# Altium footprint library IC THM.PcbLib: 8 footprints
Each footprint in its own frame and in the unit in brackets; x right, y up, seen from the top. Pads: shape width x height; smd on the part's side, far side on the other; paste and mask are expansions set on the pad; w line width, h text height; cw(c..) or ccw(c..) is an arc to the next point about the centre after c.
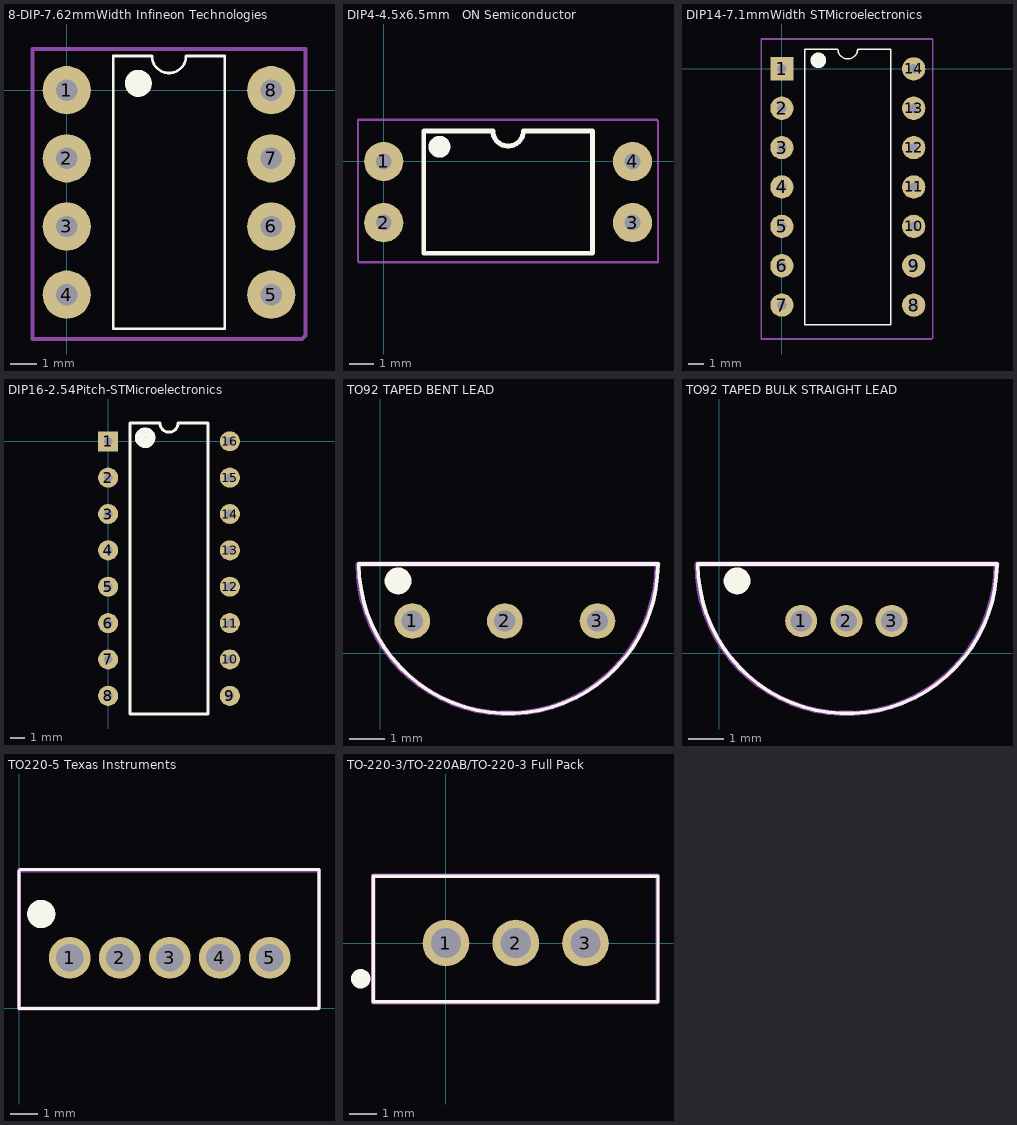
[diagram p0: the footprints below, top view; thin cyan lines are the x and y axes]

## 8-DIP-7.62mmWidth Infineon Technologies [mm] "7.62mmWidth Infineon Technologies"
pads (8):
  round 1.8 hole 0.8: 1(0,0) 2(0,-2.54) 3(0,-5.08) 4(0,-7.62) 5(7.62,-7.62) 6(7.62,-5.08) 7(7.62,-2.54) 8(7.62,0)
Top Overlay:
  circle w0.5: c2.667,0.254 r0.254
  lines w0.1: 1.735,-8.89 1.735,1.27 3.175,1.27 ccw(c3.81,1.27) 4.445,1.27 5.885,1.27 5.885,-8.89 1.735,-8.89
Mechanical 15:
  lines w0.15: -1.27,-9.271 -1.27,1.524 8.89,1.524 8.89,-9.144 8.763,-9.271 -1.27,-9.271
  text "'.Designator'" at 3.81,-1.27 h1

## DIP4-4.5x6.5mm   ON Semiconductor [mm]
pads (4):
  round 1.6 hole 0.65: 1(0,0) 2(0,-2.5) 3(10.16,-2.5) 4(10.16,0)
Top Overlay:
  circle w0.5: c2.275,0.6 r0.195
  lines w0.2: 1.635,-3.75 1.635,1.25 4.455,1.25 ccw(c5.08,1.25) 5.705,1.25 8.525,1.25 8.525,-3.75 1.635,-3.75
Mechanical 15:
  lines w0.1: -1.05,-4.075 -1.05,1.7 11.15,1.7 11.2,1.65 11.2,-4.1 11.175,-4.125 -1,-4.125 -1.05,-4.075
  text "'.Designator'" at 2.825,-0.85 h1

## DIP14-7.1mmWidth STMicroelectronics [mm]
pads (14):
  rect 1.5x1.5 hole 0.6: 1(0,0)
  round 1.5 hole 0.6: 2(0,-2.54) 3(0,-5.08) 4(0,-7.62) 5(0,-10.16) 6(0,-12.7) 7(0,-15.24) 8(8.5,-15.24) 9(8.5,-12.7) 10(8.5,-10.16) 11(8.5,-7.62) 12(8.5,-5.08) 13(8.5,-2.54) 14(8.5,0)
Top Overlay:
  circle w0.5: c2.35,0.55 r0.25
  lines w0.1: 1.485,-16.51 1.485,1.27 3.615,1.27 ccw(c4.25,1.27) 4.885,1.27 7.015,1.27 7.015,-16.51 1.485,-16.51
Mechanical 15:
  lines w0.1: -1.325,-17.425 -1.325,-17.375 -1.325,1.925 9.7,1.925 9.725,1.9 9.725,-17.375 9.675,-17.425 -1.325,-17.425
  text "'.Designator'" at 2.325,-1.575 h0.8

## DIP16-2.54Pitch-STMicroelectronics [mm] "Pitch2.54mm-7.62mmWidth"
pads (16):
  rect 1.4x1.4 hole 0.6: 1(0,0)
  round 1.4 hole 0.6: 2(0,-2.54) 3(0,-5.08) 4(0,-7.62) 5(0,-10.16) 6(0,-12.7) 7(0,-15.24) 8(0,-17.78) 9(8.5,-17.78) 10(8.5,-15.24) 11(8.5,-12.7) 12(8.5,-10.16) 13(8.5,-7.62) 14(8.5,-5.08) 15(8.5,-2.54) 16(8.5,0)
Top Overlay:
  lines w0.2: 1.535,-19.05 1.535,1.27 3.615,1.27 ccw(c4.25,1.27) 4.885,1.27 6.965,1.27 6.965,-19.05 1.535,-19.05
  lines w0.7: 2.925,0.1 cw(c2.586,0.245) 2.955,0.245
Mechanical 15:
  text "'Designator'" at 4.05,-1.15 h0.5

## TO92 TAPED BENT LEAD [mm]
pads (3):
  round 1 hole 0.6: 1(0.9,0.9) 2(3.5,0.9) 3(6.1,0.9)
Top Overlay:
  circle w0.4: c0.5,2.025 r0.175
  lines w0.1: -0.6,2.5 ccw(c3.6,2.5) 7.8,2.5 -0.6,2.5
Mechanical 15:
  lines w0.15: -0.625,2.5 ccw(c3.575,2.5) 7.775,2.5 ; -0.6,2.5 7.8,2.5
  text "'.Designator'" at 1.3,-0.6 h1

## TO92 TAPED BULK STRAIGHT LEAD [mm]
pads (3):
  round 0.9 hole 0.6: 1(2.3,0.9) 2(3.57,0.9) 3(4.84,0.9)
Top Overlay:
  circle w0.4: c0.5,2.025 r0.175
  lines w0.1: -0.6,2.5 ccw(c3.6,2.5) 7.8,2.5 -0.6,2.5
Mechanical 15:
  lines w0.15: -0.625,2.5 ccw(c3.575,2.5) 7.775,2.5 ; -0.6,2.5 7.8,2.5
  text "'.Designator'" at 1.3,-0.6 h1

## TO220-5 Texas Instruments [mm]
pads (5):
  round 1.5 hole 1: 1(1.825,1.825) 2(3.625,1.825) 3(5.425,1.825) 4(7.225,1.825) 5(9.025,1.825)
Top Overlay:
  circle w0.5: c0.8,3.4 r0.257
  lines w0.1: 0,0 0,4.953 0.047,5 10.8,5 10.8,0 0,0
Mechanical 15:
  lines w0.15: 0,0 0,4.975 10.8,4.975 10.8,0.025 10.775,0 0,0
  text "'.Designator'" at 2.875,3.375 h1

## TO-220-3/TO-220AB/TO-220-3 Full Pack [mm]
pads (3):
  round 1.7 hole 1.1: 1(0,0) 2(2.54,0) 3(5.08,0)
Top Overlay:
  circle w0.5: c-3.1,-1.3 r0.1
  lines w0.127: -2.64,-2.14 -2.64,2.44 7.72,2.44 7.72,-2.14 -2.64,-2.14
Mechanical 1:
  lines w0.1: -2.64,-2.14 7.72,-2.14 7.72,2.44 -2.64,2.44 -2.64,-2.14
Mechanical 15:
  lines w0.15: -2.645,-2.16 7.675,-2.16 7.705,-2.13 7.705,2.455 -2.645,2.455 -2.645,-2.16
  text "'.Designator'" at -2.3,1 h2